# Altium footprint library TranFet.PcbLib: 10 footprints
Each footprint in its own frame and in the unit in brackets; x right, y up, seen from the top. Pads: shape width x height; smd on the part's side, far side on the other; paste and mask are expansions set on the pad; w line width, h text height; cw(c..) or ccw(c..) is an arc to the next point about the centre after c.
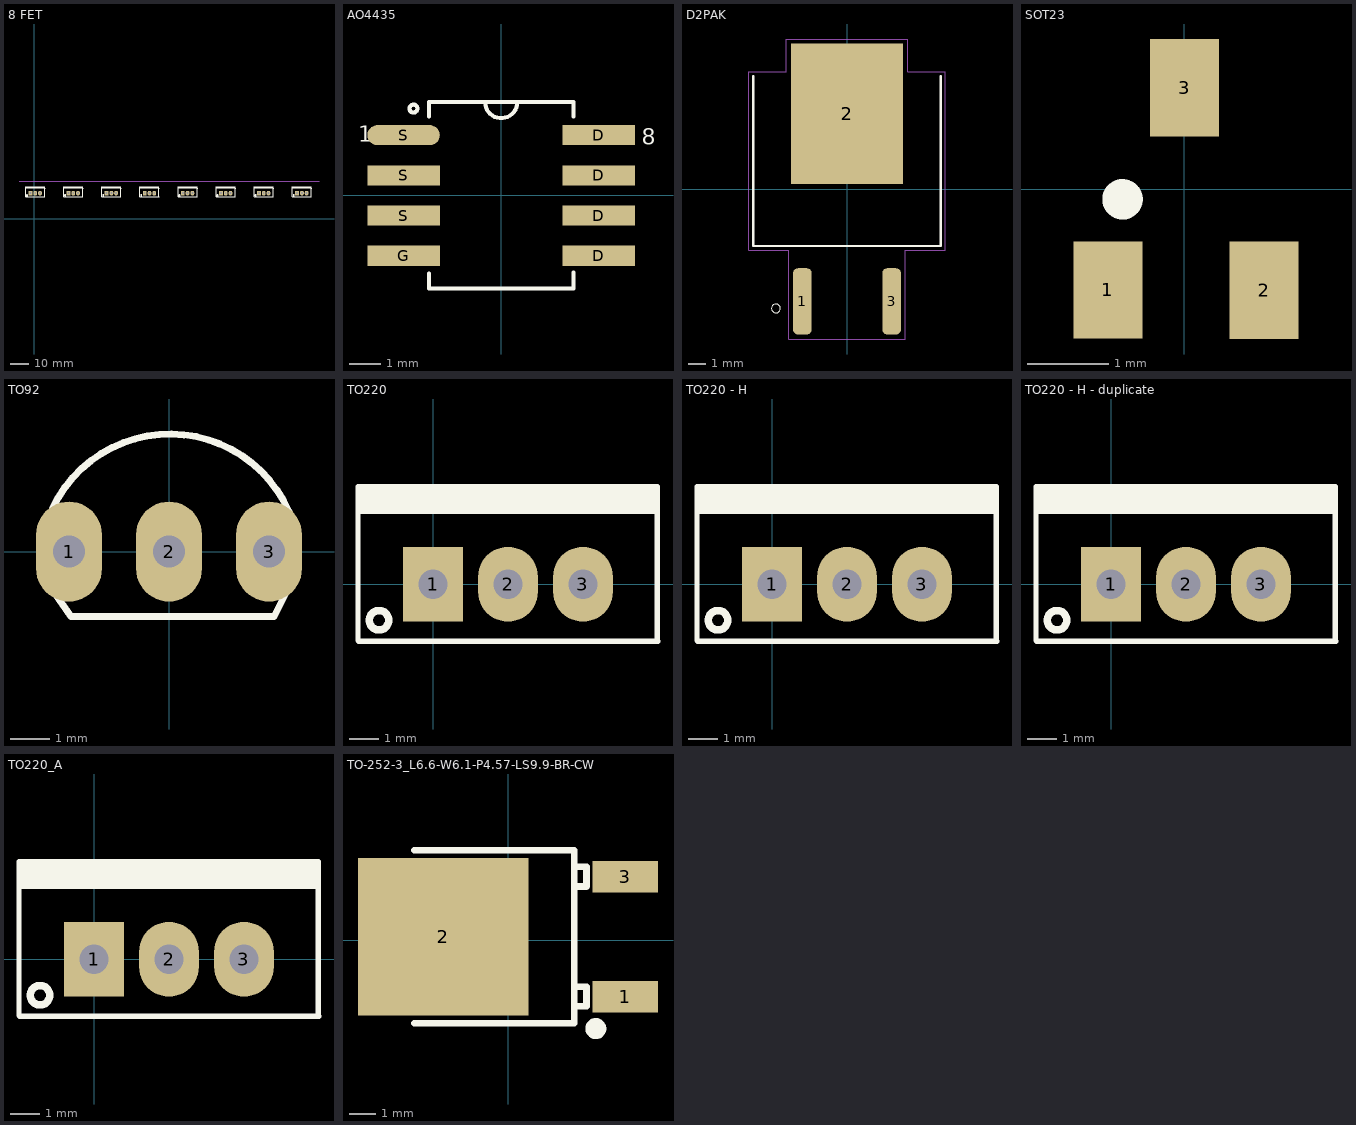
[diagram p0: the footprints below, top view; thin cyan lines are the x and y axes]

## 8 FET [mil] "8 FET"
height 200
pads (24):
  rect 80x100 hole 39: 1(-75,540) 4(725,540) 7(1525,540) 10(2325,540) 13(3125,540) 16(3925,540) 19(4725,540) 22(5525,540)
  oval 80x100 hole 39: 2(25,540) 3(125,540) 5(825,540) 6(925,540) 8(1625,540) 9(1725,540) 11(2425,540) 12(2525,540) 14(3225,540) 15(3325,540) 17(4025,540) 18(4125,540) 20(4825,540) 21(4925,540) 23(5625,540) 24(5725,540)
Top Overlay:
  circle w10: c-147.03,492 r12.97
  circle w10: c652.97,492 r12.97
  circle w10: c1452.97,492 r12.97
  circle w10: c2252.97,492 r12.97
  circle w10: c3052.97,492 r12.97
  circle w10: c3852.97,492 r12.97
  circle w10: c4652.97,492 r12.97
  circle w10: c5452.97,492 r12.97
  rectangle: -174,634 225,670
  rectangle: 626,634 1025,670
  rectangle: 1426,634 1825,670
  rectangle: 2226,634 2625,670
  rectangle: 3026,634 3425,670
  rectangle: 3826,634 4225,670
  rectangle: 4626,634 5025,670
  rectangle: 5426,634 5825,670
  lines w7: 223,647 224,633 ; 1023,647 1024,633 ; 1823,647 1824,633 ; 2623,647 2624,633 ; 3423,647 3424,633 ; 4223,647 4224,633 ; 5023,647 5024,633 ; 5823,647 5824,633 ; -175,465 -175,670 224,670 224,465 225,464 -151,464 -174,464 -175,465 ; 625,465 625,670 1024,670 1024,465 1025,464 649,464 626,464 625,465 ; 1425,465 1425,670 1824,670 1824,465 1825,464 1449,464 1426,464 1425,465 ; 2225,465 2225,670 2624,670 2624,465 2625,464 2249,464 2226,464 2225,465 ; 3025,465 3025,670 3424,670 3424,465 3425,464 3049,464 3026,464 3025,465 ; 3825,465 3825,670 4224,670 4224,465 4225,464 3849,464 3826,464 3825,465 ; 4625,465 4625,670 5024,670 5024,465 5025,464 4649,464 4626,464 4625,465 ; 5425,465 5425,670 5824,670 5824,465 5825,464 5449,464 5426,464 5425,465
Mechanical 1:
  lines w19.68: -315,790 5984.21,790
3D body "User Library-TO-220-1.STEP": height 322.83, standoff -810.24, extent -169.88,460 219.88,637.17
3D body "User Library-TO-220-1.STEP": height 322.83, standoff -810.24, extent 630.12,460 1019.88,637.17
3D body "User Library-TO-220-1.STEP": height 322.83, standoff -810.24, extent 1430.12,460 1819.88,637.17
3D body "User Library-TO-220-1.STEP": height 322.83, standoff -810.24, extent 2230.12,460 2619.88,637.17
3D body "User Library-TO-220-1.STEP": height 322.83, standoff -810.24, extent 3030.12,460 3419.88,637.17
3D body "User Library-TO-220-1.STEP": height 322.83, standoff -810.24, extent 3830.12,460 4219.88,637.17
3D body "User Library-TO-220-1.STEP": height 322.83, standoff -810.24, extent 4630.12,460 5019.88,637.17
3D body "User Library-TO-220-1.STEP": height 322.83, standoff -810.24, extent 5430.12,460 5819.88,637.17

## AO4435 [mil] "SOIC"
height 68.9
pads (8):
  rect 90x25 smd mask+3: D(121.32,-25) D(121.32,25) D(121.32,-75) D(121.32,75) G(-121.32,-75) S(-121.32,-25) S(-121.32,25)
  oval 90x25 smd mask+3: S(-121.32,75)
Top Overlay:
  circle w5: c-109,108 r4.92
  lines w5: -90,-97 -90,-116 90,-116 90,-96 ; -90,98 -90,116 90,116 90,98 ; -20,116 ccw(c0,116) 20,116
  text "1" at -178,67 h20
  text "8" at 175,63 h20
3D body "SOIC08 narrow.stp": height 78.74, standoff 0.13, extent -121.32,-98.42 121.32,98.43

## D2PAK [mm]
pads (3):
  rrect53% 1.06x3.78 smd: 1(-2.54,-6.4) 3(2.54,-6.4)
  rect 6.39x8 smd paste-5 mask+0: 2(0,4.29)
Top Overlay:
  circle w0: c-4.05,-6.8 r0.25
  lines w0.12: -5.34,6.42 -5.34,-3.24 5.32,-3.24 ; 5.34,-3.24 5.34,6.42
Top Paste:
  region: 3.05,8.15 2.036,8.15 2.036,8.286 3.05,8.286
  region: -1.45,8.15 -4.242,8.15 -4.242,8.205 -1.45,8.205
  region: 3.05,0.557 2.024,0.557 2.024,2.65 3.05,2.65
  region: 0.8,0.568 -1.138,0.568 -1.138,2.65 0.8,2.65
  region: 3.05,4.412 2.031,4.412 2.031,5.4 3.05,5.4
  region: 0.8,4.435 -1.126,4.435 -1.126,5.4 0.8,5.4
  region: 0.8,8.15 -1.111,8.15 -1.111,8.194 0.8,8.194
Mechanical 15:
  lines w0.05: -5.59,-3.49 -3.32,-3.49 -3.32,-8.54 3.32,-8.54 3.32,-3.49 5.59,-3.49 5.59,6.67 3.45,6.67 3.45,8.54 -3.45,8.54 -3.45,6.67 -5.59,6.67 -5.59,-3.49
3D body "IRF3709SPBF.STEP": height 4.83, standoff -0.25, extent -5.08,-6.35 5.08,8.89

## SOT23 [mm] "SOT 23 _ 1-3-2"
height 1.27
pads (3):
  rect 0.85x1.2 smd: 1(-0.94,-1.245) 2(0.985,-1.25) 3(0.005,1.25)
Top Overlay:
  circle w0.25: c-0.76,-0.127 r0.125
3D body "SW3DPS-SOT-23-DEFAULT.STEP": height 1.06, standoff -0.04, extent -1.475,-1.326 1.525,1.174

## TO92 [mil] "TO-92"
height 200
pads (3):
  oval 66x100 hole 32: 1(-100,0) 2(0,0) 3(100,0)
Top Overlay:
  lines w7: -116.52,43.21 cw(c0.97,-12.43) 119.94,39.97 ; -115.34,-40.24 -98,-65 105,-65 118,-39
3D body "SW3dPS-TO92.STEP": height 245.04, standoff -199.79, extent -108.87,-65.56 108.86,95

## TO220 [mil] "TO-220"
height 200
pads (3):
  rect 80x100 hole 39: 1(0,0)
  oval 80x100 hole 39: 2(100,0) 3(200,0)
Top Overlay:
  circle w10: c-72.03,-48 r12.97
  rectangle: -99,94 300,130
  lines w7: 298,107 299,93 ; -100,-75 -100,130 299,130 299,-75 300,-76 -76,-76 -99,-76 -100,-75
3D body "User Library-TO-220-1.STEP": height 322.83, standoff -810.24, extent -94.88,-80 294.88,97.17

## TO220 - H [mil] "TO-220"
height 200
pads (3):
  rect 80x100 hole 39: 1(0,0)
  oval 80x100 hole 39: 2(100,0) 3(200,0)
Top Overlay:
  circle w10: c-72.03,-48 r12.97
  rectangle: -99,94 300,130
  lines w7: 298,107 299,93 ; -100,-75 -99,-76 -76,-76 300,-76 299,-75 299,130 -100,130 -100,-75
3D body "TO 220 Heatsink 24 K,W - 19 x 13.5 x 9.5 mm.stp": height 898.03, standoff 150, extent -160,-219.02 371.5,155
3D body "User Library-TO-220-1.STEP": height 322.83, standoff -810.24, extent -94.88,-80 294.88,97.17

## TO220 - H - duplicate [mil] "TO-220"
height 200
pads (3):
  rect 80x100 hole 39: 1(0,0)
  oval 80x100 hole 39: 2(100,0) 3(200,0)
Top Overlay:
  circle w10: c-72.03,-48 r12.97
  rectangle: -99,94 300,130
  lines w7: 298,107 299,93 ; -100,-75 -100,130 299,130 299,-75 300,-76 -76,-76 -99,-76 -100,-75
3D body "to220_alu.STEP": height 782.22, standoff -397.58, extent -200.55,-76.54 390,356.54

## TO220_A [mil] "TO-220_A"
height 200
pads (3):
  rect 80x100 hole 39: 1(0,0)
  oval 80x100 hole 39: 2(100,0) 3(200,0)
Top Overlay:
  circle w10: c-72.03,-48 r12.97
  rectangle: -99,94 300,130
  lines w7: 298,107 299,93 ; -100,-75 -100,130 299,130 299,-75 300,-76 -76,-76 -99,-76 -100,-75
3D body "TO220_Heatsink.STEP": height 1020.72, standoff -283.39, extent -592.14,-130.54 786.69,369.46

## TO-252-3_L6.6-W6.1-P4.57-LS9.9-BR-CW [mm]
pads (3):
  rect 2.5x1.2 smd: 1(4.475,-2.149) 3(4.475,2.423)
  rect 6.5x6 smd: 2(-2.475,0.137)
Top Overlay:
  circle w0.4: c3.35,-3.364 r0.2
  lines w0.254: -3.575,-3.163 0.856,-3.163 2.525,-3.163 2.525,3.437 0.856,3.437 -3.575,3.437 ; 2.525,-2.513 2.994,-2.513 2.994,-1.763 2.525,-1.763 ; 2.525,2.058 2.994,2.058 2.994,2.808 2.525,2.808
Mechanical 15:
  circle w0.5: c4.25,-2.163 r0.25
3D body "TO-252.step": height 2.32, standoff 0.02, extent -4.227,-3.29 5.473,3.29